# EAGLE library part TTGO_T8_V1_7 (library TTGO_T8_V1_7)
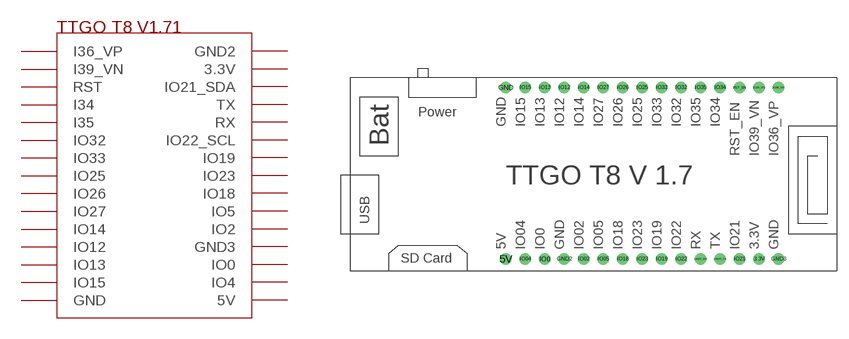
[diagram p0: symbol with the pads of TTGO_T8_V1_7; footprint TTGO_T8_V1_7]

Designator prefix -

## TTGO_T8_V1_7  [TTGO_T8_V1_7]
3.3V  3.3V  pwr
5V  5V  pwr
GND  GND  pwr
GND2  GND3  pwr
GND3  GND2  pwr
IO0  IO0
IO02  IO2
IO04  IO4
IO05  IO5
IO12  IO12
IO13  IO13
IO14  IO14
IO15  IO15
IO18  IO18
IO19  IO19
IO21  IO21_SDA
IO22  IO22_SCL
IO23  IO23
IO25  IO25
IO26  IO26
IO27  IO27
IO32  IO32
IO33  IO33
IO34  I34  in
IO35  I35  in
IO36_VP  I36_VP  in
IO39_VN  I39_VN  in
RST_EN  RST  in
UART_RX  RX
UART_TX  TX

## Footprint TTGO_T8_V1_7 (pad centres in mm)
drill 1: 3.3V 33.02,-22.352; 5V 0,-22.352; GND 0,0; GND2 7.62,-22.352; GND3 35.56,-22.352; IO0 5.08,-22.352; IO02 10.16,-22.352; IO04 2.54,-22.352; IO05 12.7,-22.352; IO12 7.62,0; IO13 5.08,0; IO14 10.16,0; IO15 2.54,0; IO18 15.24,-22.352; IO19 20.32,-22.352; IO21 30.48,-22.352; IO22 22.86,-22.352; IO23 17.78,-22.352; IO25 17.78,0; IO26 15.24,0; IO27 12.7,0; IO32 22.86,0; IO33 20.32,0; IO34 27.94,0; IO35 25.4,0; IO36_VP 35.56,0; IO39_VN 33.02,0; RST_EN 30.48,0; UART_RX 25.4,-22.352; UART_TX 27.94,-22.352